# EAGLE library part HM-11 (library bt)
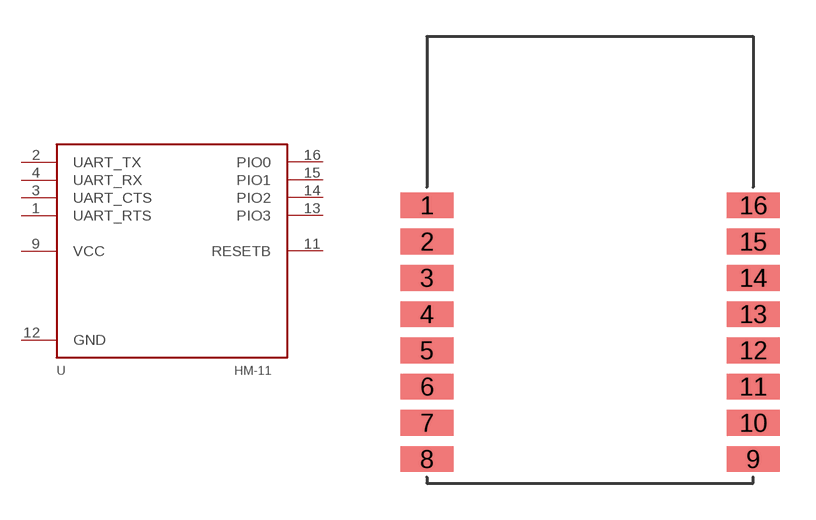
[diagram p1: symbol with the pads of HM-11; footprint HM-11]

Designator prefix -

## HM-11  [HM-11]
1  UART_RTS
2  UART_TX
3  UART_CTS
4  UART_RX
9  VCC
11  RESETB
12  GND
13  PIO3
14  PIO2
15  PIO1
16  PIO0

## Footprint HM-11 (pad centres in mm)
smd 2.184 x 1.067: 1 -6.75,0; 2 -6.75,-1.5; 3 -6.75,-3; 4 -6.75,-4.5; 5 -6.75,-6; 6 -6.75,-7.5; 7 -6.75,-9; 8 -6.75,-10.5; 9 6.75,-10.5; 10 6.75,-9; 11 6.75,-7.5; 12 6.75,-6; 13 6.75,-4.5; 14 6.75,-3; 15 6.75,-1.5; 16 6.75,0